# EAGLE library part ALPS-RKJXL (library jt-switches)
ALPS RKJXL 9-way navigation switch Connect both C1 and C2
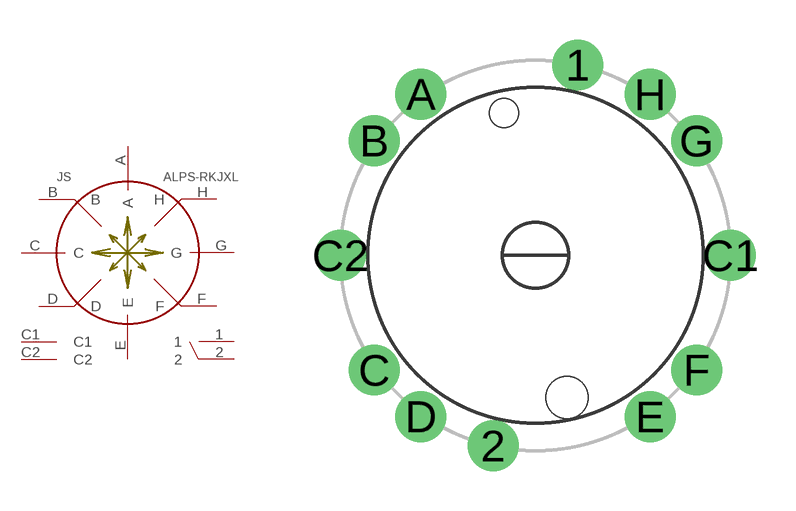
[diagram p0: symbol with the pads of RKJXL; footprint RKJXL]

Designator prefix JS

## ALPS-RKJXL  [RKJXL]
1  1
2  2
A  A
B  B
C  C
C1  C1
C2  C2
D  D
E  E
F  F
G  G
H  H

## Footprint RKJXL (pad centres in mm)
Alps RKJXL 8-way switch
drill 1.2 pad 1.93 round: 1 1.602,7.224; 2 -1.602,-7.224; A -4.349,6.116; B -6.116,4.349; C -6.116,-4.349; C1 7.4,0; C2 -7.4,0; D -4.349,-6.116; E 4.349,-6.116; F 6.116,-4.349; G 6.116,4.349; H 4.349,6.116
hole 1.1 at -1.2,5.4
hole 1.6 at 1.2,-5.4